# EAGLE library part CS4335-KSZ (library zephod-components)
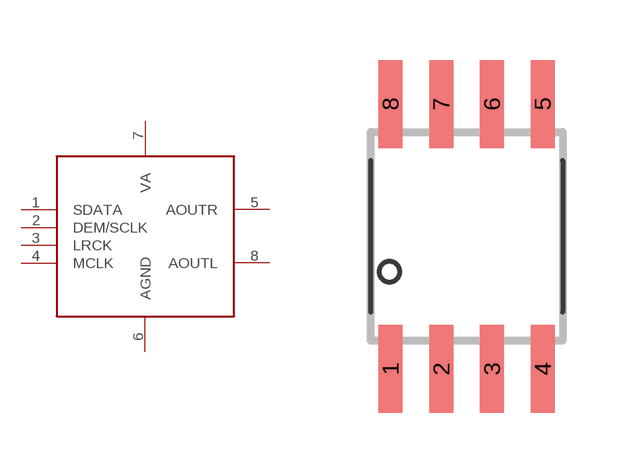
[diagram p0: symbol with the pads of SOIC8_208MIL; footprint SOIC8_208MIL]

Designator prefix -

## CS4335-KSZ  [SOIC8_208MIL]
1  SDATA
2  DEM/SCLK
3  LRCK
4  MCLK
5  AOUTR
6  AGND
7  VA
8  AOUTL

## Footprint SOIC8_208MIL (pad centres in mm)
Small Outline IC - 208mil Wide
smd 0.6 x 2.2: 1 -1.905,-3.315; 2 -0.635,-3.315; 3 0.635,-3.315; 4 1.905,-3.315; 5 1.905,3.315; 6 0.635,3.315; 7 -0.635,3.315; 8 -1.905,3.315